# Altium schematic symbol library My Footprint.SchLib: 232 symbols (part 2 of 2)
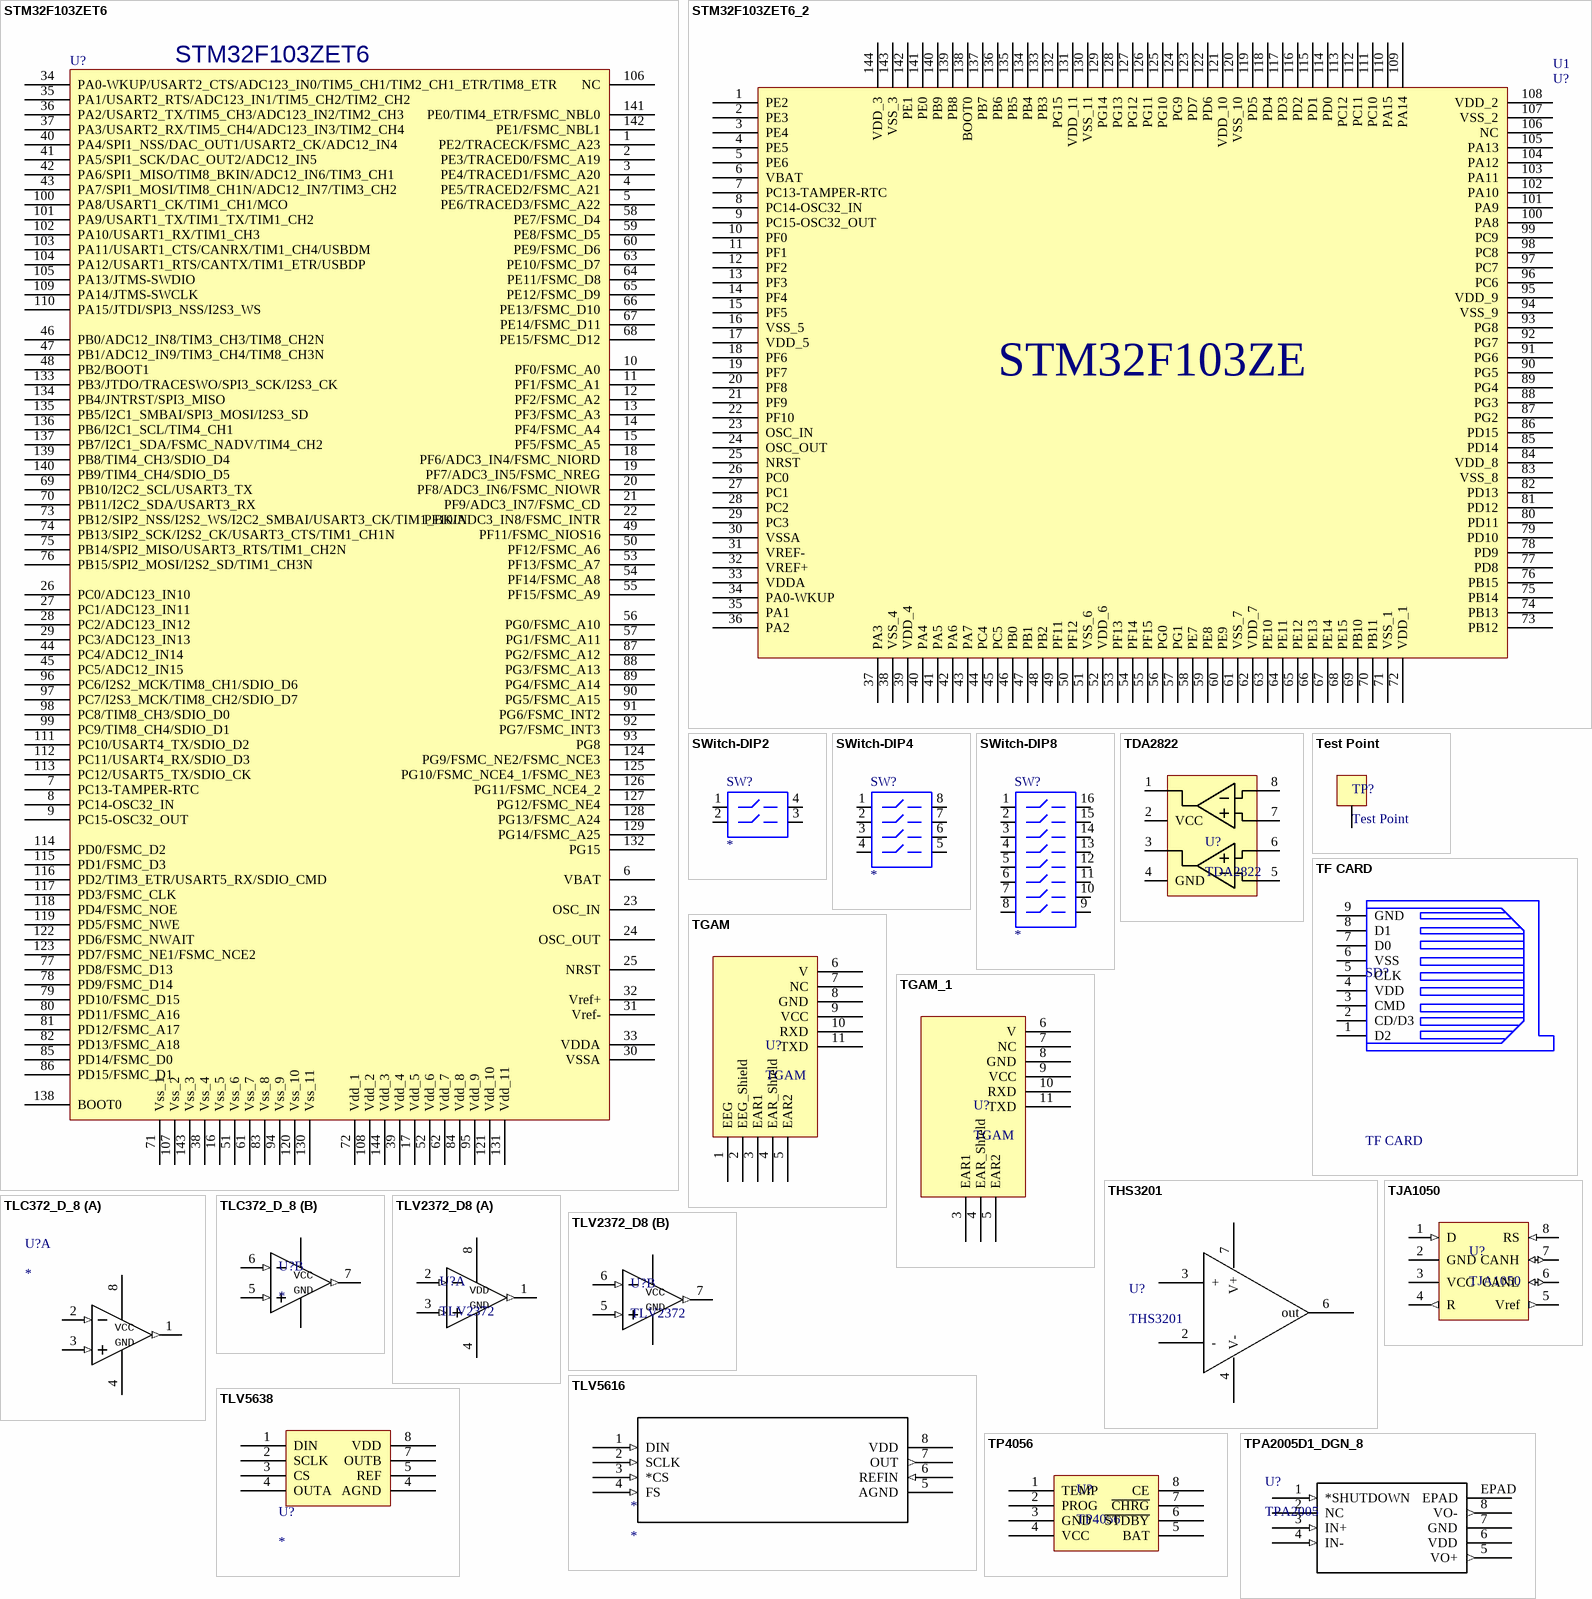
[diagram p9: symbols STM32F103ZET6 to TPA2005D1_DGN_8]

## TLC372_D_8
designator U?
Imported; Manufacturer_Part_Number: tlc372_d_8; GENERIC_PART_NUMBER: TLC372; Vendor: Texas Instruments; PACKAGE_DESIGNATOR: D; PIN_COUNT: 8; FAMILY_NAME: COMPARATOR; INDUSTRY_STD_PKG_TYPE: SOIC; Datasheet URL: http://www.ti.com/lit/gpn/TLC372; Manufacturer: Texas Instruments; RefDes: RefDes; Type: DEV; Value: Value
footprint SOIC-8
part A pins: 1 1OUT (out), 2 1IN- (in), 3 1IN+ (in), 4 GND (power), 8 VCC (power)
part B pins: 5 2IN+ (in), 6 2IN- (in), 7 2OUT (out)

## TLV2372_D8
designator U?, comment TLV2372
Imported; Manufacturer_Part_Number: tlv2372_d_8; Vendor: Texas Instruments; PACKAGE_DESIGNATOR: D; PIN_COUNT: 8; FAMILY_NAME: LOW POWER; INDUSTRY_STD_PKG_TYPE: SOIC; GENERIC_PART_NUMBER: TLV2372; Datasheet URL: http://www.ti.com/lit/gpn/TLV2372; Manufacturer: Texas Instruments; RefDes: RefDes; Type: DEV; Value: Value
footprint SOIC-8
part A pins: 1 1OUT (out), 2 1IN- (in), 3 1IN+ (in), 4 GND (power), 8 VCC (power)
part B pins: 5 2IN+ (in), 6 2IN- (in), 7 2OUT (out)
part A text: VDD

## TLV5616
designator *
footprint TLV5616
footprint TLV5616
pins: 1 DIN (in), 2 SCLK (in), 3 *CS (in), 4 FS (in), 5 AGND (power), 6 REFIN (in), 7 OUT (out), 8 VDD (power)

## TLV5638
designator U?
footprint SOP8
pins: 1 DIN, 2 SCLK, 3 CS, 4 OUTA, 4 AGND, 5 REF, 7 OUTB, 8 VDD

## TP4056
designator U?
TP4056_SOIC
footprint SOIC-8N (SOIC, 8-Leads, Body 4.9x3.9mm, Pitch 1.27mm, IPC Medium Density)
pins: 1 TEMP, 2 PROG, 3 GND, 4 VCC, 5 BAT, 6 ~{STDBY}, 7 ~{CHRG}, 8 CE

## TPA2005D1_DGN_8
designator U?, comment TPA2005
Imported; Manufacturer_Part_Number: tpa2005d1_dgn_8; GENERIC_PART_NUMBER: TPA2005D1; Vendor: Texas Instruments; PACKAGE_DESIGNATOR: DGN; PIN_COUNT: 8; FAMILY_NAME: DYNAMIC SPEAKER; INDUSTRY_STD_PKG_TYPE: MSOP-PowerPAD; Datasheet URL: http://www.ti.com/lit/gpn/TPA2005D1; Manufacturer: Texas Instruments; RefDes: RefDes; Type: Type; Value: Value
footprint DGN8
pins: 1 *SHUTDOWN (in), 2 NC, 3 IN+ (in), 4 IN- (in), 5 VO+ (out), 6 VDD (power), 7 GND (power), 8 VO- (out), EPAD

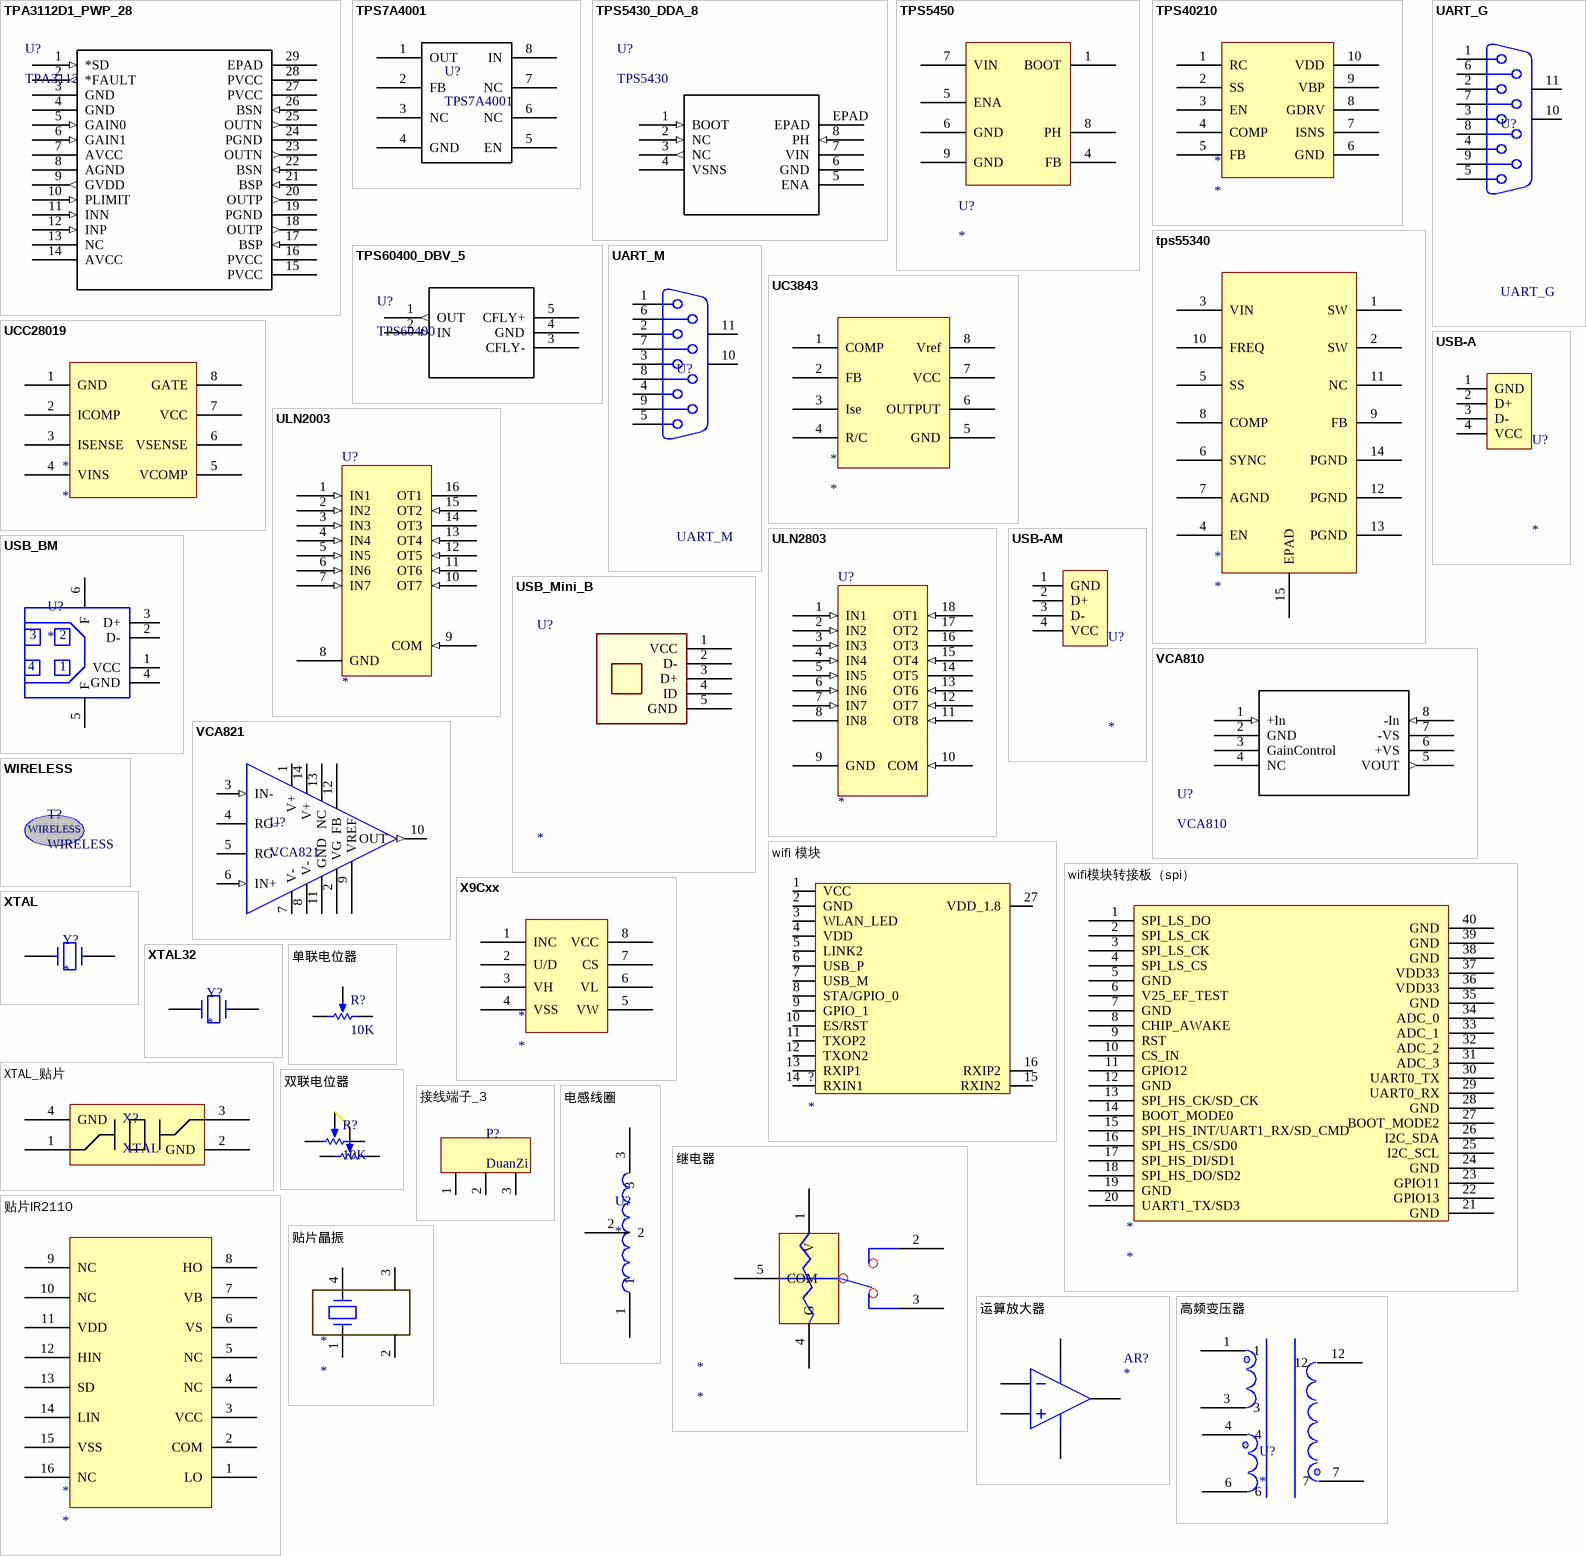
[diagram p8: symbols TPA3112D1_PWP_28 to 高频变压器]

## TPA3112D1_PWP_28
designator U?, comment TPA3112
Imported; Manufacturer_Part_Number: tpa3112d1_pwp_28; GENERIC_PART_NUMBER: TPA3112D1; Vendor: Texas Instruments; PACKAGE_DESIGNATOR: PWP; PIN_COUNT: 28; FAMILY_NAME: MID/HIGH-POWER AMPLIFIER; INDUSTRY_STD_PKG_TYPE: HTSSOP; Datasheet URL: http://www.ti.com/lit/gpn/TPA3112D1; Manufacturer: Texas Instruments; RefDes: RefDes; Type: DEV; Value: Value
footprint PWP28
pins: 1 *SD (in), 2 *FAULT (out), 3 GND (power), 4 GND (power), 5 GAIN0 (in), 6 GAIN1 (in), 7 AVCC (power), 8 AGND (power), 9 GVDD (out), 10 PLIMIT (in), 11 INN (in), 12 INP (in), 13 NC, 14 AVCC (power), 15 PVCC (power), 16 PVCC (power), 17 BSP (in), 18 OUTP (out), 19 PGND (power), 20 OUTP (out), 21 BSP (in), 22 BSN (in), 23 OUTN (out), 24 PGND (power), 25 OUTN (out), 26 BSN (in), 27 PVCC (power), 28 PVCC (power), 29 EPAD

## TPS7A4001
designator U?
footprint DGK8
pins: 1 OUT, 2 FB, 3 NC, 4 GND, 5 EN, 6 NC, 7 NC, 8 IN

## TPS5430_DDA_8
designator U?, comment TPS5430
Imported; Manufacturer_Part_Number: tps5430_dda_8; Vendor: Texas Instruments; PACKAGE_DESIGNATOR: DDA; PIN_COUNT: 8; FAMILY_NAME: STEP-DOWN REGULATOR; INDUSTRY_STD_PKG_TYPE: SO PowerPAD; GENERIC_PART_NUMBER: TPS5430; Datasheet URL: http://www.ti.com/lit/gpn/TPS5430; Manufacturer: Texas Instruments; RefDes: RefDes; Type: DEV; Value: Value
footprint DDA8_3P1X2P4
pins: 1 BOOT (in), 2 NC (in), 3 NC (out), 4 VSNS, 5 ENA (power), 6 GND, 7 VIN, 8 PH (in), EPAD

## TPS5450
designator U?
footprint TPS5450
pins: 1 BOOT, 4 FB, 5 ENA, 6 GND, 7 VIN, 8 PH, 9 GND

## TPS40210
designator *
pins: 1 RC, 2 SS, 3 EN, 4 COMP, 5 FB, 6 GND, 7 ISNS, 8 GDRV, 9 VBP, 10 VDD

## tps55340
designator *
footprint tps55340
pins: 1 SW, 2 SW, 3 VIN, 4 EN, 5 SS, 6 SYNC, 7 AGND, 8 COMP, 9 FB, 10 FREQ, 11 NC, 12 PGND, 13 PGND, 14 PGND, 15 EPAD

## TPS60400_DBV_5
designator U?, comment TPS60400
Imported; Manufacturer_Part_Number: tps60400_dbv_5; Vendor: Texas Instruments; PACKAGE_DESIGNATOR: DBV; PIN_COUNT: 5; FAMILY_NAME: INVERTING CHARGE PUMP REGULATOR; INDUSTRY_STD_PKG_TYPE: SOT-23; GENERIC_PART_NUMBER: TPS60400; Datasheet URL: http://www.ti.com/lit/gpn/TPS60400; Manufacturer: Texas Instruments; RefDes: RefDes; Type: DEV; Value: Value
footprint DBV5
pins: 1 OUT (out), 2 IN (in), 3 CFLY-, 4 GND (power), 5 CFLY+

## UART_G
designator U?
footprint UART_G
pins: 1, 2, 3, 4, 5, 6, 7, 8, 9, 10 MH1, 11 MH2

## UART_M
designator U?
footprint UART_M
pins: 1, 2, 3, 4, 5, 6, 7, 8, 9, 10 MH1, 11 MH2

## UC3843
designator *
footprint DIP-8
pins: 1 COMP, 2 FB, 3 Ise, 4 R/C, 5 GND, 6 OUTPUT, 7 VCC, 8 Vref

## UCC28019
designator *
footprint SOIC-8N (SOIC, has a pad under it)
pins: 1 GND, 2 ICOMP, 3 ISENSE, 4 VINS, 5 VCOMP, 6 VSENSE, 7 VCC, 8 GATE

## ULN2003
designator U?
footprint DIP-16
pins: 1 IN1 (in), 2 IN2 (in), 3 IN3 (in), 4 IN4 (in), 5 IN5 (in), 6 IN6 (in), 7 IN7 (in), 8 GND (power), 9 COM (in), 10 OT7 (in), 11 OT6 (in), 12 OT5 (in), 13 OT4 (in), 14 OT3 (hiz), 15 OT2 (in), 16 OT1 (power)

## ULN2803
designator U?
footprint DIP-18
pins: 1 IN1 (in), 2 IN2 (in), 3 IN3 (in), 4 IN4 (in), 5 IN5 (in), 6 IN6 (in), 7 IN7 (in), 8 IN8, 9 GND (power), 10 COM (in), 11 OT8 (in), 12 OT7 (in), 13 OT6 (in), 14 OT5 (hiz), 15 OT4 (in), 16 OT3 (power), 17 OT2, 18 OT1 (in)

## USB-A
designator U?
Data line
footprint USB-A
pins: 1 GND, 2 D+, 3 D-, 4 VCC

## USB-AM
designator U?
Data line
footprint USB_AM
pins: 1 GND, 2 D+, 3 D-, 4 VCC

## USB_BM
designator U?
footprint USB_BM
pins: 1 VCC, 2 D-, 3 D+, 4 GND, 5 F, 6 F

## USB_Mini_B
designator U?
Model: 54819-0578; OrderNr: 418-0172; Maker: Molex; Distributor: RS; Price: 4,29 (5)
footprint USB_MINI_B_SMD
footprint USB_Micro
pins: 1 VCC, 2 D-, 3 D+, 4 ID, 5 GND

## VCA810
designator U?
Imported; Manufacturer: Texas Instruments; Manufacturer_Part_Number: vca810_d_8; INDUSTRY_STD_PKG_TYPE: SOIC; FAMILY_NAME: VARIABLE GAIN AMPLIFIER; PIN_COUNT: 8; PACKAGE_DESIGNATOR: D; Datasheet URL: http://www.ti.com/lit/gpn/VCA810; GENERIC_PART_NUMBER: VCA810; Vendor: Texas Instruments; RefDes: RefDes; Type: DEV; Value: Value
footprint SOIC-8
pins: 1 +In (in), 2 GND (power), 3 GainControl, 4 NC, 5 VOUT (out), 6 +VS, 7 -VS, 8 -In (in)

## VCA821
designator U?
footprint SOIC-14
pins: 1 V+, 2 VG, 3 IN- (in), 4 RG+ (oc), 5 RG- (oc), 6 IN+ (in), 7 V- (power), 8 V- (power), 9 VREF, 10 OUT (out), 11 GND (oc), 12 FB, 13 NC, 14 V+

## wifi 模块
designator ?
pins: 1 VCC, 2 GND, 3 WLAN_LED, 4 VDD, 5 LINK2, 6 USB_P, 7 USB_M, 8 STA/GPIO_0, 9 GPIO_1, 10 ES/RST, 11 TXOP2, 12 TXON2, 13 RXIP1, 14 RXIN1, 15 RXIN2, 16 RXIP2, 27 VDD_1.8

## wifi模块转接板（spi）
designator *
pins: 1 SPI_LS_DO, 2 SPI_LS_CK, 3 SPI_LS_CK, 4 SPI_LS_CS, 5 GND, 6 V25_EF_TEST, 7 GND, 8 CHIP_AWAKE, 9 RST, 10 CS_IN, 11 GPIO12, 12 GND, 13 SPI_HS_CK/SD_CK, 14 BOOT_MODE0, 15 SPI_HS_INT/UART1_RX/SD_CMD, 16 SPI_HS_CS/SD0, 17 SPI_HS_DI/SD1, 18 SPI_HS_DO/SD2, 19 GND, 20 UART1_TX/SD3, 21 GND, 22 GPIO13, 23 GPIO11, 24 GND, 25 I2C_SCL, 26 I2C_SDA, 27 BOOT_MODE2, 28 GND, 29 UART0_RX, 30 UART0_TX, 31 ADC_3, 32 ADC_2, 33 ADC_1, 34 ADC_0, 35 GND, 36 VDD33, 37 VDD33, 38 GND, 39 GND, 40 GND

## WIRELESS
designator T?
footprint logo_wireless

## X9Cxx
designator *
footprint SOP8
pins: 1 INC, 2 U/D, 3 VH, 4 VSS, 5 VW, 6 VL, 7 CS, 8 VCC

## XTAL
designator Y?
footprint XTAL_2
pins: 1, 2

## XTAL32
designator Y?
footprint XTAL_32
pins: 1, 2

## XTAL_贴片
designator X?, comment XTAL
footprint OSC_KH5032_4P
footprint OSC_KH3225_4P
footprint OSC_KH4025_4P
footprint OSC_KH5070_4P
footprint OSC_KH6035_4P
pins: 1 OSC1, 2 GND, 3 OSC2, 4 GND

## 单联电位器
designator R?, comment 10K
footprint Rpot_单联
pins: 1 BOT, 2 TAP, 3 TOP

## 双联电位器
designator R?, comment 10K
footprint RPOT_双联
pins: 1 BOT, 2 TAP, 3 TOP, 4 BOT, 5 TAP, 6 TOP

## 接线端子_3
designator P?, comment DuanZi
footprint DG128-3
pins: 1, 2, 3

## 电感线圈
designator U?
pins: 1, 2, 3

## 继电器
designator *
footprint 继电器
pins: 1 V, 2 J1, 3 J2, 4 G, 5 COM

## 贴片IR2110
designator *
footprint SOIC-16
footprint SOL-16_L (16-Pin Small Outline Integrated Circuit 1.27 mm Pitch, IPC High Density)
pins: 1 LO, 2 COM, 3 VCC, 4 NC, 5 NC, 6 VS, 7 VB, 8 HO, 9 NC, 10 NC, 11 VDD, 12 HIN, 13 SD, 14 LIN, 15 VSS, 16 NC

## 贴片晶振
designator *
pins: 1, 2 3, 3, 4 2

## 运算放大器
designator AR?
Operational Amplifier
pins: 1 IN-, 2 IN+, 3 OUT, 4 V+, 5 V-

## 高频变压器
designator U?
pins: 1, 3, 4, 6, 7, 12